# Altium schematic symbol library Header 1X7.Schlib: 1 symbol
Pins are listed as number, name and electrical type; pins without a type are passive.

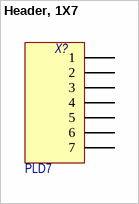
[diagram p0: symbol Header, 1X7]

## Header, 1X7
designator X?, comment Наименование: PLD7  (hidden comment: Header 1X7)
Header, 7-Pin, Single row SCH; Потребление, Вт: 0,0; Назначение: Header, 7-Pin, Single row SCH
footprint PLS-7 (2.54mm PIN HEADER R/A)
pins: 1, 2, 3, 4, 5, 6, 7